# EAGLE library part TCS32X0 (library launchpad_bp)
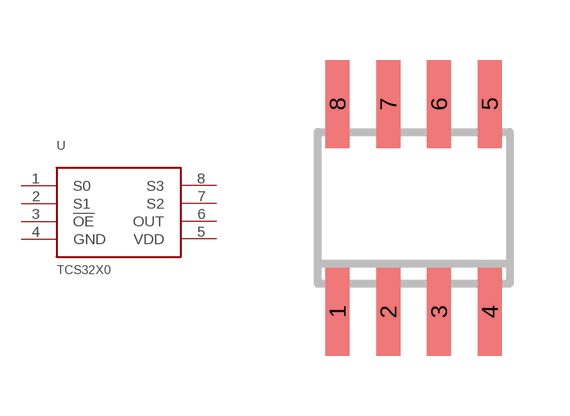
[diagram p10: symbol with the pads of SOIC8; footprint SOIC8]

Designator prefix -

## TCS32X0  [SOIC8]
1  S0  in
2  S1  in
3  !OE  in
4  GND  pwr
5  VDD  pwr
6  OUT  out
7  S2  in
8  S3  in

## Footprint SOIC8 (pad centres in mm)
Small Outline IC
smd 0.6 x 2.2: 1 -1.905,-2.6; 2 -0.635,-2.6; 3 0.635,-2.6; 4 1.905,-2.6; 5 1.905,2.6; 6 0.635,2.6; 7 -0.635,2.6; 8 -1.905,2.6